# EAGLE library part AP22653W6-7 (library AP22653W6-7)
Power Switch ICs - Power Distribution 1-Ch Precision Curr-Limit Load SW Source: Datasheet <https://www.diodes.com//assets/Datasheets/AP22652_53_52A_53A.pdf>
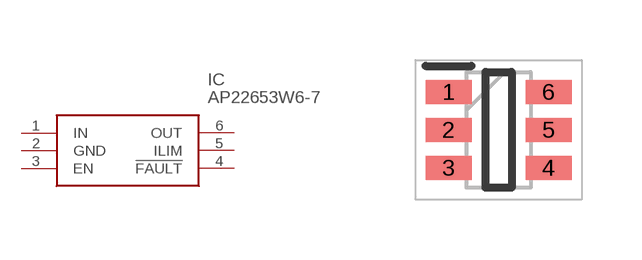
[diagram p0: symbol with the pads of SOT95P280X145-6N; footprint SOT95P280X145-6N]

Designator prefix IC

## AP22653W6-7 (Arrow_Part_Number: AP22653W6-7; Arrow_Price-Stock: null?region=asia; Description: Power Switch ICs - Power Distribution 1-Ch Precision Curr-Limit Load SW; Height: 1.45mm; Manufacturer_Name: Diodes Incorporated; Manufacturer_Part_Number: AP22653W6-7; Mouser_Part_Number: 621-AP22653W6-7; Mouser_Price-Stock: https://www.mouser.co.uk/ProductDetail/Diodes-Incorporated/AP22653W6-7?qs=rkhjVJ6%2F3ELFrpB7eThLLg%3D%3D)  [SOT95P280X145-6N]
1  IN
2  GND
3  EN
4  !FAULT
5  ILIM
6  OUT

## Footprint SOT95P280X145-6N (pad centres in mm)
SOT26 (Type A1)
smd 1.15 x 0.6: 1 -1.25,0.95; 2 -1.25,0; 3 -1.25,-0.95; 4 1.25,-0.95; 5 1.25,0; 6 1.25,0.95